# Altium footprint library Diode_SMD.PcbLib: 69 footprints (part 2 of 5)
Each footprint in its own frame and in the unit in brackets; x right, y up, seen from the top. Pads: shape width x height; smd on the part's side, far side on the other; paste and mask are expansions set on the pad; w line width, h text height; cw(c..) or ccw(c..) is an arc to the next point about the centre after c.
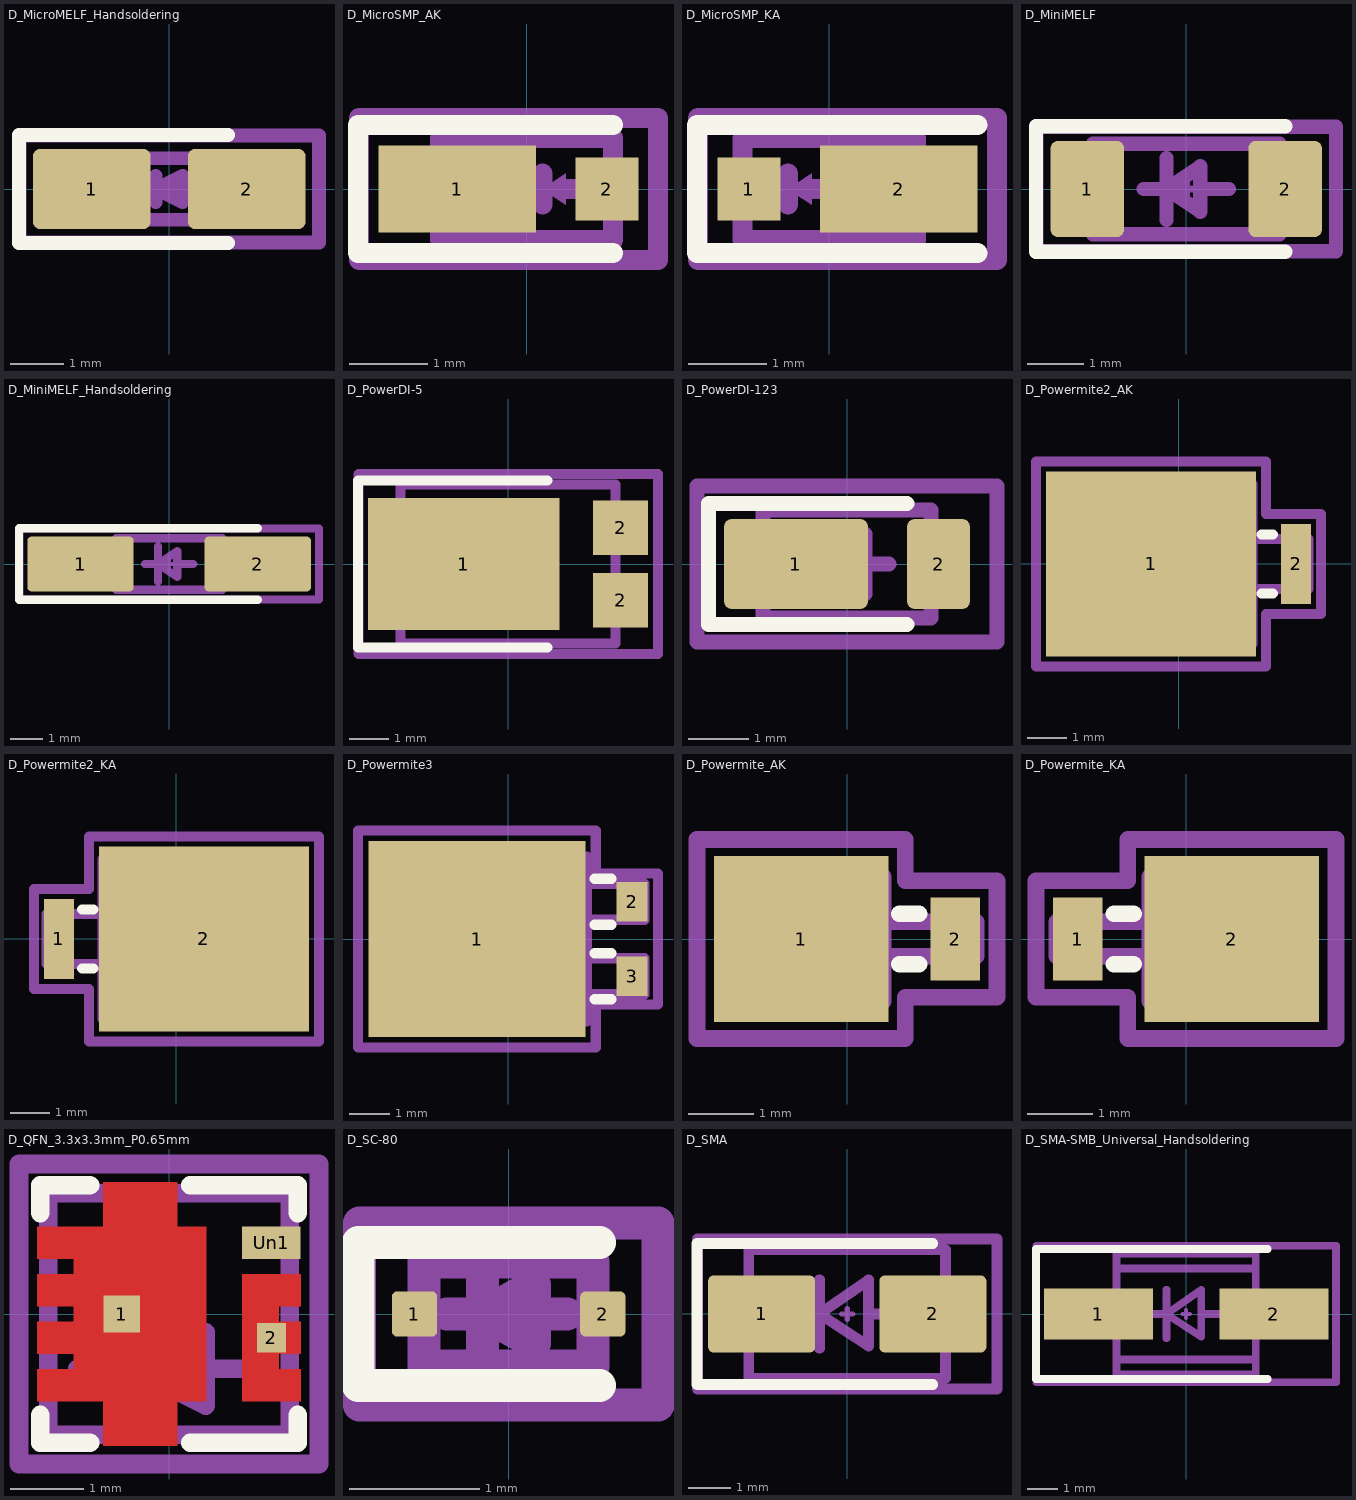
[diagram p1: the footprints below, top view; thin cyan lines are the x and y axes]

## D_MicroMELF_Handsoldering [mm] "D_MicroMELF_Handsoldering"
pads (2):
  rrect17% 2.2x1.5 smd: 1(-1.45,0) 2(1.45,0)
F.SilkS:
  lines w0.254: 1.1,-1.01 -2.81,-1.01 -2.81,1.01 1.1,1.01
Top Component Center:
  lines w0.127: -0.127,0 0.127,0 ; 0,-0.127 0,0.127
Top Assembly:
  lines w0.254: -0.75,0 -0.25,0 ; -0.25,-0.25 -0.25,0.25 ; 0.25,0 0.75,0 ; -0.25,0 0.25,0.25 0.25,-0.25 -0.25,0 ; -0.95,-0.575 -0.95,0.575 0.95,0.575 0.95,-0.575 -0.95,-0.575
Top Courtyard:
  lines w0.254: -2.8,-1 -2.8,1 2.8,1 2.8,-1 -2.8,-1
Top Designator:
  text ".Designator" at -1.69,-0.169 h0.75

## D_MicroSMP_AK [mm] "D_MicroSMP_AK"
pads (2):
  rect 2x1.1 smd: 1(-0.88,0)
  rect 0.8x0.8 smd: 2(1.02,0)
F.SilkS:
  lines w0.254: 1.1,-0.81 -2.14,-0.81 -2.14,0.81 1.1,0.81
Top Component Center:
  lines w0.127: -0.127,0 0.127,0 ; 0,-0.127 0,0.127
Top Assembly:
  region: 0.5,-0.2 0.2,0 0.5,0.2
  lines w0.254: -0.9,0 0.2,0 ; 0.2,-0.2 0.2,0.2 ; 0.5,0 0.9,0 ; -1.1,-0.65 1.1,-0.65 1.1,0.65 -1.1,0.65 -1.1,-0.65
Top Courtyard:
  lines w0.254: -2.13,-0.9 1.67,-0.9 1.67,0.9 -2.13,0.9 -2.13,-0.9
Top Designator:
  text ".Designator" at -1.69,-0.169 h0.75

## D_MicroSMP_KA [mm]
pads (2):
  rect 0.8x0.8 smd: 1(-1.02,0)
  rect 2x1.1 smd: 2(0.88,0)
F.SilkS:
  lines w0.254: 1.88,-0.81 -1.68,-0.81 -1.68,0.81 1.88,0.81
Top Component Center:
  lines w0.127: -0.127,0 0.127,0 ; 0,-0.127 0,0.127
Top Assembly:
  region: -0.225,-0.2 -0.525,0 -0.225,0.2
  lines w0.254: -0.8,0 -0.525,0 ; -0.525,-0.2 -0.525,0.2 ; -0.225,0 0.8,0 ; -1.1,-0.65 -1.1,0.65 1.1,0.65 1.1,-0.65 -1.1,-0.65
Top Courtyard:
  lines w0.254: -1.67,-0.9 -1.67,0.9 2.13,0.9 2.13,-0.9 -1.67,-0.9
Top Designator:
  text ".Designator" at -1.69,-0.169 h0.75

## D_MiniMELF [mm]
pads (2):
  rrect19% 1.3x1.7 smd: 1(-1.75,0) 2(1.75,0)
F.SilkS:
  lines w0.254: 1.75,-1.11 -2.66,-1.11 -2.66,1.11 1.75,1.11
Top Component Center:
  lines w0.127: -0.127,0 0.127,0 ; 0,-0.127 0,0.127
Top Assembly:
  lines w0.254: -0.75,0 -0.35,0 ; -0.35,-0.55 -0.35,0 ; -0.35,0.55 -0.35,0 ; 0.25,0 0.75,0 ; -0.35,0 0.25,-0.4 0.25,0.4 -0.35,0 ; -1.65,-0.8 1.65,-0.8 1.65,0.8 -1.65,0.8 -1.65,-0.8
Top Courtyard:
  lines w0.254: -2.65,-1.1 2.65,-1.1 2.65,1.1 -2.65,1.1 -2.65,-1.1
Top Designator:
  text ".Designator" at -2.254,-0.226 h1

## D_MiniMELF_Handsoldering [mm]
pads (2):
  rrect15% 3.3x1.7 smd: 1(-2.75,0) 2(2.75,0)
F.SilkS:
  lines w0.254: 2.75,-1.11 -4.66,-1.11 -4.66,1.11 2.75,1.11
Top Component Center:
  lines w0.127: -0.127,0 0.127,0 ; 0,-0.127 0,0.127
Top Assembly:
  lines w0.254: -0.75,0 -0.35,0 ; -0.35,-0.55 -0.35,0 ; -0.35,0.55 -0.35,0 ; 0.25,0 0.75,0 ; -0.35,0 0.25,-0.4 0.25,0.4 -0.35,0 ; -1.65,-0.8 1.65,-0.8 1.65,0.8 -1.65,0.8 -1.65,-0.8
Top Courtyard:
  lines w0.254: -4.65,-1.1 4.65,-1.1 4.65,1.1 -4.65,1.1 -4.65,-1.1
Top Designator:
  text ".Designator" at -2.254,-0.226 h1

## D_PowerDI-5 [mm] "D_PowerDI-5"
pads (3):
  rect 4.86x3.36 smd: 1(-1.12,0)
  rect 1.4x1.39 smd: 2(2.862,-0.92) 2(2.862,0.92)
F.SilkS:
  lines w0.254: 1,-2.125 -3.81,-2.125 -3.81,2.125 1,2.125
Top Component Center:
  lines w0.127: -0.127,0 0.127,0 ; 0,-0.127 0,0.127
Top Assembly:
  lines w0.254: -0.8,0 -0.5,0 ; -0.5,-0.5 -0.5,0 ; -0.5,0.5 -0.5,0 ; 0.3,0 0.7,0 ; -0.5,0 0.3,-0.5 0.3,0.5 -0.5,0 ; -2.725,-2.025 -2.725,2.025 2.725,2.025 2.725,-2.025 -2.725,-2.025
Top Courtyard:
  lines w0.254: -3.8,-2.28 -3.8,2.28 3.81,2.28 3.81,-2.28 -3.8,-2.28
Top Designator:
  text ".Designator" at -3.435,-0.344 h1.52

## D_PowerDI-123 [mm] "D_PowerDI-123"
pads (2):
  rrect17% 2.4x1.5 smd: 1(-0.85,0)
  rrect24% 1.05x1.5 smd: 2(1.525,0)
F.SilkS:
  lines w0.254: 1,-1.01 -2.31,-1.01 -2.31,1.01 1,1.01
Top Component Center:
  lines w0.127: -0.127,0 0.127,0 ; 0,-0.127 0,0.127
Top Assembly:
  lines w0.254: -0.8,0 -0.5,0 ; -0.5,-0.5 -0.5,0 ; -0.5,0.5 -0.5,0 ; 0.3,0 0.7,0 ; -0.5,0 0.3,-0.5 0.3,0.5 -0.5,0 ; -1.4,-0.9 -1.4,0.9 1.4,0.9 1.4,-0.9 -1.4,-0.9
Top Courtyard:
  lines w0.254: -2.5,-1.3 -2.5,1.3 2.5,1.3 2.5,-1.3 -2.5,-1.3
Top Designator:
  text ".Designator" at -2.254,-0.226 h1
3D body "D_PowerDI-123.step": height 1, standoff 0, extent -1.95,-0.965 1.95,0.965

## D_Powermite2_AK [mm] "D_Powermite2_AK"
pads (2):
  rect 5.33x4.7 smd: 1(-0.699,0)
  rect 0.762x2.03 smd: 2(2.983,0)
F.SilkS:
  lines w0.254: 2.1,-0.755 2.4,-0.755 ; 2.1,0.755 2.4,0.755
Top Component Center:
  lines w0.127: -0.127,0 0.127,0 ; 0,-0.127 0,0.127
Top Assembly:
  lines w0.254: -2.44,-0.89 -3.12,-0.89 -3.12,0.89 -2.44,0.89 ; -0.8,0 -0.55,0 ; -0.55,-0.2 -0.55,0.2 ; -0.25,0 0,0 ; 1.88,-0.635 3.3,-0.635 3.3,0.635 1.88,0.635 ; -0.55,0 -0.25,0.2 -0.25,-0.2 -0.55,0 ; -2.44,-2.03 1.88,-2.03 1.88,2.03 -2.44,2.03 -2.44,-2.03
Top Courtyard:
  lines w0.254: -3.62,-2.6 2.22,-2.6 2.22,-1.27 3.62,-1.27 3.62,1.27 2.22,1.27 2.22,2.6 -3.62,2.6 -3.62,-2.6
Top Designator:
  text ".Designator" at -3.435,-0.344 h1.52
3D body "D_Powermite_AK.step": height 1, standoff 0, extent -1.945,-0.95 1.87,0.95

## D_Powermite2_KA [mm] "D_Powermite2_KA"
pads (2):
  rect 0.762x2.03 smd: 1(-2.983,0)
  rect 5.33x4.7 smd: 2(0.699,0)
F.SilkS:
  lines w0.254: -2.4,-0.755 -2.1,-0.755 ; -2.4,0.755 -2.1,0.755
Top Component Center:
  lines w0.127: -0.127,0 0.127,0 ; 0,-0.127 0,0.127
Top Assembly:
  lines w0.254: -1.88,-0.635 -3.3,-0.635 -3.3,0.635 -1.88,0.635 ; 0,0 0.25,0 ; 0.25,-0.2 0.25,0.2 ; 0.55,0 0.8,0 ; 2.44,-0.89 3.12,-0.89 3.12,0.89 2.44,0.89 ; 0.25,0 0.55,-0.2 0.55,0.2 0.25,0 ; -1.88,-2.03 -1.88,2.03 2.44,2.03 2.44,-2.03 -1.88,-2.03
Top Courtyard:
  lines w0.254: -3.62,-1.27 -3.62,1.27 -2.22,1.27 -2.22,2.6 3.62,2.6 3.62,-2.6 -2.22,-2.6 -2.22,-1.27 -3.62,-1.27
Top Designator:
  text ".Designator" at -3.435,-0.344 h1.52

## D_Powermite3 [mil] "D_Powermite3"
pads (3):
  rect 210.39x190 smd: 1(-30,0)
  rect 30x37.99 smd: 2(120.2,36) 3(120.2,-36)
F.SilkS:
  lines w10: 84.17,-58.25 99.92,-58.25 ; 84.17,-13.8 99.92,-13.8 ; 84.17,13.8 99.92,13.8 ; 84.17,58.25 99.92,58.25
Top Component Center:
  lines w5: -5,0 5,0 ; 0,-5 0,5
Top Assembly:
  lines w10: -97.01,-35.04 -124.17,-35.04 -124.17,35.04 -97.01,35.04 ; 76.22,-53.52 132.2,-53.52 132.2,-18.52 76.22,-18.52 ; 76.22,18.52 132.2,18.52 132.2,53.52 76.22,53.52 ; -97.01,-79.92 -97.01,79.92 76.22,79.92 76.22,-79.92 -97.01,-79.92
Top Courtyard:
  lines w10: -145.28,-105.12 -145.28,105.12 85.04,105.12 85.04,63.39 145.28,63.39 145.28,-63.39 85.04,-63.39 85.04,-105.12 -145.28,-105.12
Top Designator:
  text ".Designator" at -135.25,-13.56 h60

## D_Powermite_AK [mil] "D_Powermite_AK"
pads (2):
  rect 105.12x100 smd: 1(-27.5,0)
  rect 30x50 smd: 2(65.06,0)
F.SilkS:
  lines w10: 31.5,-15.16 43.31,-15.16 ; 31.5,15.16 43.31,15.16
Top Component Center:
  lines w5: -5,0 5,0 ; 0,-5 0,5
Top Assembly:
  lines w10: -52.95,-16.93 -74.02,-16.93 -74.02,16.93 -52.95,16.93 ; 21.85,-10.43 77.56,-10.43 77.56,10.43 21.85,10.43 ; -21.65,0 -9.84,7.87 ; -21.65,0 -9.84,7.87 ; -21.65,0 -9.84,-7.87 ; -21.65,0 -9.84,-7.87 ; -21.65,0 -31.5,0 -21.65,0 ; -9.84,-7.87 -9.84,7.87 ; -9.84,-7.87 -9.84,7.87 ; -52.95,-37.4 21.85,-37.4 21.85,37.4 -52.95,37.4 -52.95,-37.4 ; -21.65,-7.87 -21.65,7.87 -21.65,-7.87 ; -9.84,0 0,0 -9.84,0
Top Courtyard:
  lines w10: -90.16,-59.84 35.04,-59.84 35.04,-35.04 90.16,-35.04 90.16,35.04 35.04,35.04 35.04,59.84 -90.16,59.84 -90.16,-59.84
Top Designator:
  text ".Designator" at -110.91,-11.12 h49.21
3D body "D_Powermite_AK.step": height 39.37, standoff 0, extent -76.57,-37.4 73.62,37.4

## D_Powermite_KA [mil] "D_Powermite_KA"
pads (2):
  rect 30x50 smd: 1(-65.06,0)
  rect 105.12x100 smd: 2(27.5,0)
F.SilkS:
  lines w10: -43.31,-15.16 -31.5,-15.16 ; -43.31,15.16 -31.5,15.16
Top Component Center:
  lines w5: -5,0 5,0 ; 0,-5 0,5
Top Assembly:
  lines w10: -21.85,-10.43 -77.56,-10.43 -77.56,10.43 -21.85,10.43 ; 52.95,-16.93 74.02,-16.93 74.02,16.93 52.95,16.93 ; 9.84,0 0,0 9.84,0 ; 9.84,0 21.65,-7.87 ; 9.84,0 21.65,-7.87 ; 9.84,0 21.65,7.87 ; 9.84,0 21.65,7.87 ; 21.65,-7.87 21.65,7.87 ; 21.65,-7.87 21.65,7.87 ; -21.85,-37.4 -21.85,37.4 52.95,37.4 52.95,-37.4 -21.85,-37.4 ; 9.84,-7.87 9.84,7.87 9.84,-7.87 ; 21.65,0 31.5,0 21.65,0
Top Courtyard:
  lines w10: -90.16,-35.04 -90.16,35.04 -35.04,35.04 -35.04,59.84 90.16,59.84 90.16,-59.84 -35.04,-59.84 -35.04,-35.04 -90.16,-35.04
Top Designator:
  text ".Designator" at -88.72,-8.9 h39.37

## D_QFN_3.3x3.3mm_P0.65mm [mm] "D_QFN_3.3x3.3mm_P0.65mm"
pads (3):
  rect 0.5x0.5 smd: 1(-0.645,0)
  rect 0.4x0.4 smd: 2(1.4,-0.325)
  rect 0.8x0.44 smd: Un1(1.4,0.975)
F.Cu:
  region: 1.8,0.105 1.5,0.105 1.5,-0.105 1.8,-0.105 1.8,-0.545 1.5,-0.545 1.5,-0.755 1.8,-0.755 1.8,-1.195 1,-1.195 1,0.545 1.8,0.545
  region: 0.11,1.195 0.51,1.195 0.51,-1.195 0.11,-1.195 0.11,-1.8 -0.9,-1.8 -0.9,-1.195 -1.8,-1.195 -1.8,-0.755 -1.3,-0.755 -1.3,-0.545 -1.8,-0.545 -1.8,-0.105 -1.3,-0.105 -1.3,0.105 -1.8,0.105 -1.8,0.545 -1.3,0.545 -1.3,0.755 -1.8,0.755 -1.8,1.195 -0.9,1.195 -0.9,1.8 0.11,1.8
F.SilkS:
  lines w0.254: -1.76,-1.38 -1.76,-1.76 -1.08,-1.76 ; -1.76,1.38 -1.76,1.76 -1.08,1.76 ; 0.29,-1.76 1.76,-1.76 1.76,-1.38 ; 0.29,1.76 1.76,1.76 1.76,1.38
F.Paste:
  region: 1.8,0.105 1.5,0.105 1.5,-0.105 1.8,-0.105 1.8,-0.545 1.5,-0.545 1.5,-0.755 1.8,-0.755 1.8,-1.195 1,-1.195 1,0.545 1.8,0.545
  region: 0.11,1.195 0.51,1.195 0.51,-1.195 0.11,-1.195 0.11,-1.8 -0.9,-1.8 -0.9,-1.195 -1.8,-1.195 -1.8,-0.755 -1.3,-0.755 -1.3,-0.545 -1.8,-0.545 -1.8,-0.105 -1.3,-0.105 -1.3,0.105 -1.8,0.105 -1.8,0.545 -1.3,0.545 -1.3,0.755 -1.8,0.755 -1.8,1.195 -0.9,1.195 -0.9,1.8 0.11,1.8
F.Mask:
  region: 1.8,0.105 1.5,0.105 1.5,-0.105 1.8,-0.105 1.8,-0.545 1.5,-0.545 1.5,-0.755 1.8,-0.755 1.8,-1.195 1,-1.195 1,0.545 1.8,0.545
  region: 0.11,1.195 0.51,1.195 0.51,-1.195 0.11,-1.195 0.11,-1.8 -0.9,-1.8 -0.9,-1.195 -1.8,-1.195 -1.8,-0.755 -1.3,-0.755 -1.3,-0.545 -1.8,-0.545 -1.8,-0.105 -1.3,-0.105 -1.3,0.105 -1.8,0.105 -1.8,0.545 -1.3,0.545 -1.3,0.755 -1.8,0.755 -1.8,1.195 -0.9,1.195 -0.9,1.8 0.11,1.8
Top Component Center:
  lines w0.127: -0.127,0 0.127,0 ; 0,-0.127 0,0.127
Top Assembly:
  lines w0.254: -1.25,-0.75 -0.5,-0.75 ; -0.5,-1.25 -0.5,-0.25 ; 0.5,-0.75 1.25,-0.75 ; -0.5,-0.75 0.5,-1.25 0.5,-0.25 -0.5,-0.75 ; -1.65,-1.65 1.65,-1.65 1.65,1.65 -1.65,1.65 -1.65,-1.65
Top Courtyard:
  lines w0.254: -2.05,-2.05 2.05,-2.05 2.05,2.05 -2.05,2.05 -2.05,-2.05
Top Designator:
  text ".Designator" at -2.817,-0.282 h1.25

## D_SC-80 [mm] "D_SC-80"
pads (2):
  rrect25% 0.35x0.35 smd: 1(-0.725,0) 2(0.725,0)
F.SilkS:
  lines w0.254: 0.7,-0.55 -1.16,-0.55 -1.16,0.55 0.7,0.55
Top Component Center:
  lines w0.127: -0.127,0 0.127,0 ; 0,-0.127 0,0.127
Top Assembly:
  lines w0.254: -0.475,0 -0.2,0 ; -0.2,-0.275 -0.2,0.275 ; 0.2,0 0.45,0 ; -0.2,0 0.2,-0.225 0.2,0.225 -0.2,0 ; -0.65,-0.4 0.65,-0.4 0.65,0.4 -0.65,0.4 -0.65,-0.4
Top Courtyard:
  lines w0.254: -1.15,-0.7 -1.1,-0.7 1.15,-0.7 1.15,0.65 1.15,0.7 1.1,0.7 -1.15,0.7 -1.15,-0.65 -1.15,-0.7
Top Designator:
  text ".Designator" at -1.127,-0.113 h0.5
3D body "D_SC-80.step": height 0.7, standoff 0, extent -0.85,-0.4 0.85,0.4

## D_SMA [mm] "D_SMA"
pads (2):
  rrect14% 2.5x1.8 smd: 1(-2,0) 2(2,0)
F.SilkS:
  lines w0.254: 2,-1.65 -3.51,-1.65 -3.51,1.65 2,1.65
Top Component Center:
  lines w0.127: -0.127,0 0.127,0 ; 0,-0.127 0,0.127
Top Assembly:
  lines w0.254: -1.551,-0.001 -0.649,-0.001 ; -0.649,-0.801 -0.649,0.799 ; 0.501,-0.001 1.499,-0.001 ; -0.649,-0.001 0.501,0.799 0.501,-0.75 -0.649,-0.001 ; -2.3,-1.5 -2.3,1.5 2.3,1.5 2.3,-1.5 -2.3,-1.5
Top Courtyard:
  lines w0.254: -3.5,-1.75 -3.5,1.75 3.5,1.75 3.5,-1.75 -3.5,-1.75
Top Designator:
  text ".Designator" at -3.435,-0.344 h1.52
3D body "D_SMA.step": height 2.22, standoff 0, extent -2.5,-1.35 2.5,1.35

## D_SMA-SMB_Universal_Handsoldering [mm] "D_SMA-SMB_Universal_Handsoldering"
pads (2):
  rect 3.6x1.7 smd: 1(-2.9,0) 2(2.9,0)
F.SilkS:
  lines w0.254: 2.7,-2.15 -4.96,-2.15 -4.96,2.15 2.7,2.15
Top Component Center:
  lines w0.127: -0.127,0 0.127,0 ; 0,-0.127 0,0.127
Top Assembly:
  lines w0.254: -1.551,-0.001 -0.649,-0.001 ; -0.649,-0.801 -0.649,0.799 ; 0.501,-0.001 1.499,-0.001 ; -0.649,-0.001 0.501,-0.75 0.501,0.799 -0.649,-0.001 ; -2.3,-2 2.3,-2 2.3,2 -2.3,2 -2.3,-2 ; -2.3,-1.5 2.3,-1.5 2.3,1.5 -2.3,1.5 -2.3,-1.5
Top Courtyard:
  lines w0.254: -4.95,-2.25 4.95,-2.25 4.95,2.25 -4.95,2.25 -4.95,-2.25
Top Designator:
  text ".Designator" at -3.435,-0.344 h1.52